# EAGLE library part XC7S50-FGGA484 (library fpga)
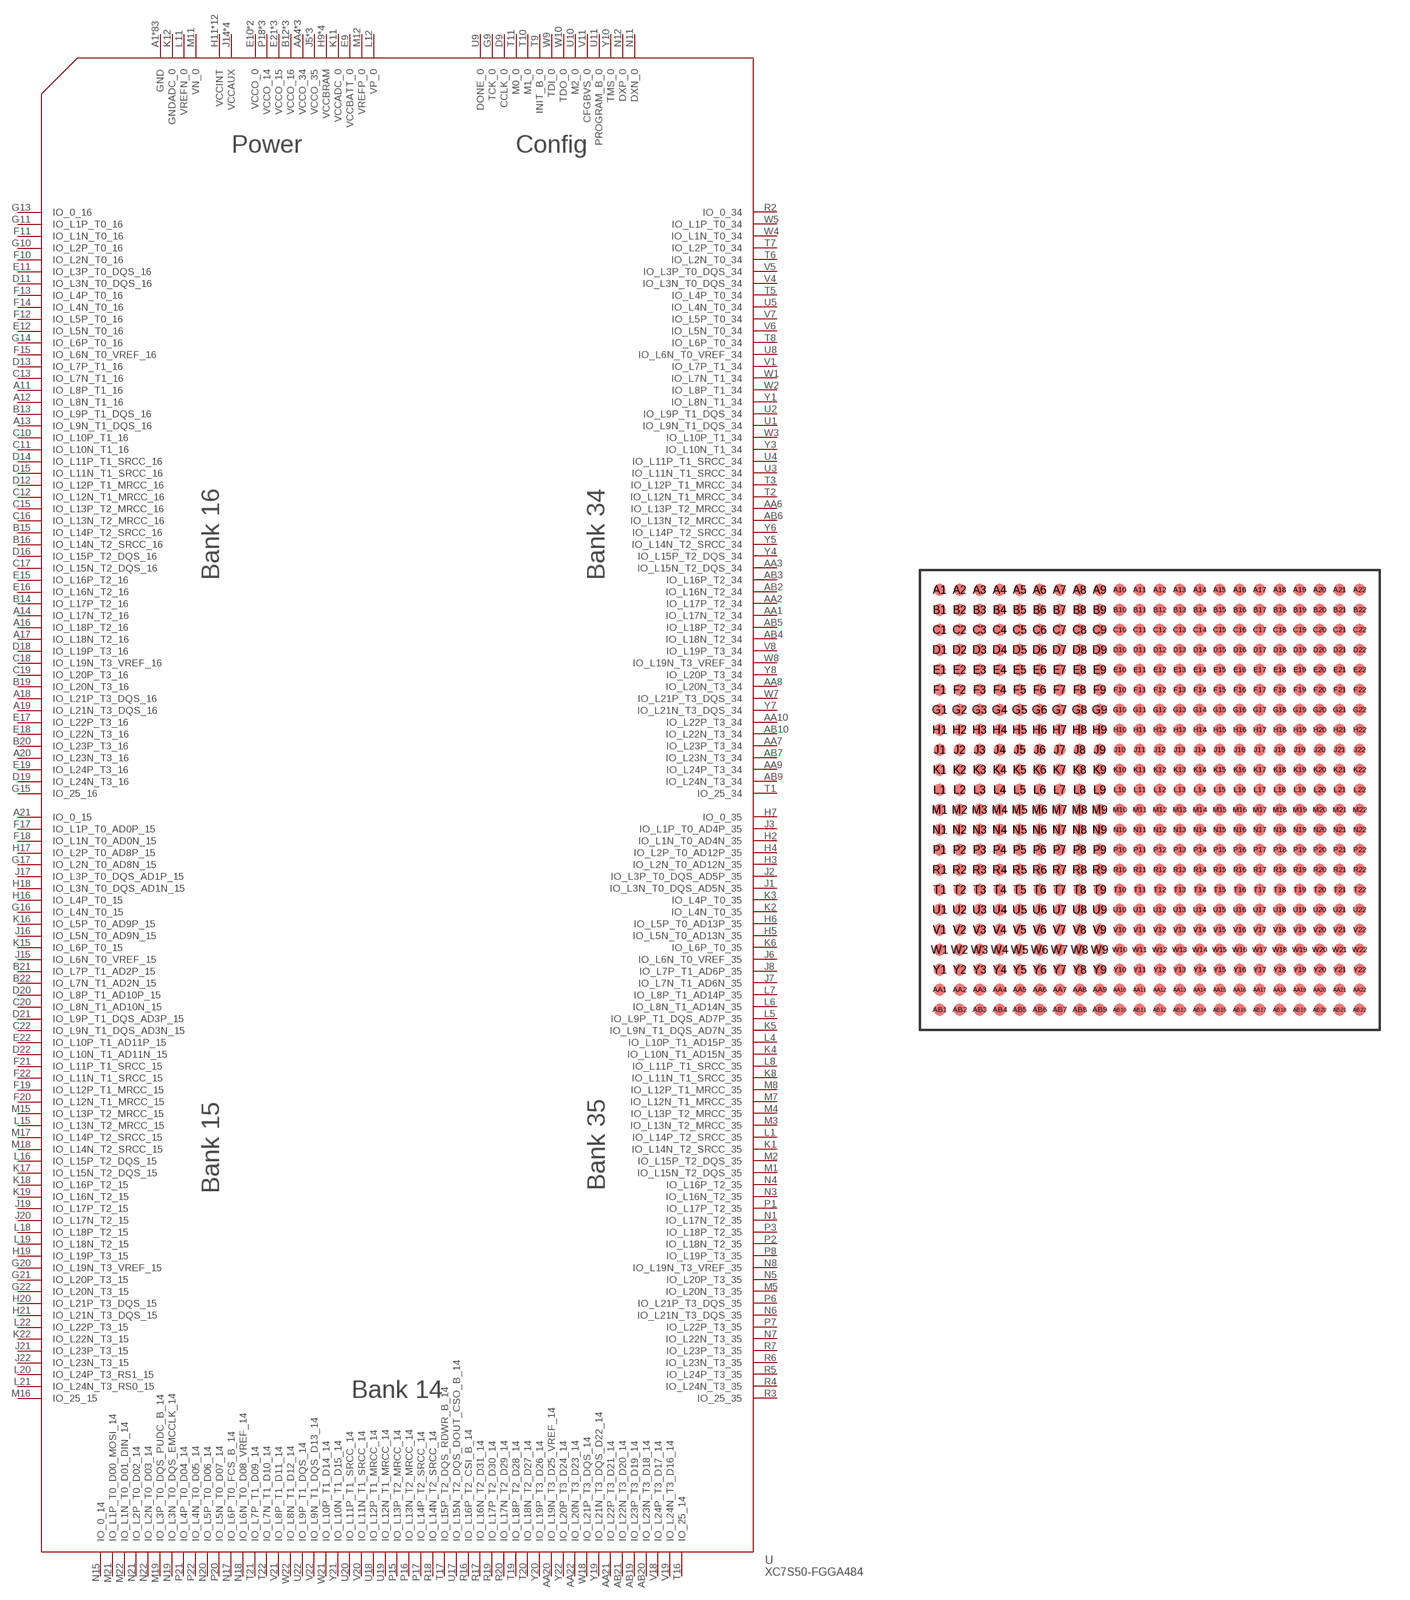
[diagram p1: symbol with the pads of FGGA484; footprint FGGA484]

Designator prefix -

## XC7S50-FGGA484  [FGGA484]
A1  GND
A8  GND
A11  IO_L8P_T1_16
A12  IO_L8N_T1_16
A13  IO_L9N_T1_DQS_16
A14  IO_L17N_T2_16
A15  GND
A16  IO_L18P_T2_16
A17  IO_L18N_T2_16
A18  IO_L21P_T3_DQS_16
A19  IO_L21N_T3_DQS_16
A20  IO_L23N_T3_16
A21  IO_0_15
A22  GND
AA1  IO_L17N_T2_34
AA2  IO_L17P_T2_34
AA3  IO_L15N_T2_DQS_34
AA4  VCCO_34
AA5  GND
AA6  IO_L13P_T2_MRCC_34
AA7  IO_L23P_T3_34
AA8  IO_L20N_T3_34
AA9  IO_L24P_T3_34
AA10  IO_L22P_T3_34
AA12  GND
AA19  GND
AA20  IO_L19N_T3_D25_VREF_14
AA21  IO_L22P_T3_D21_14
AA22  IO_L20N_T3_D23_14
AB1  GND
AB2  IO_L16N_T2_34
AB3  IO_L16P_T2_34
AB4  IO_L18N_T2_34
AB5  IO_L18P_T2_34
AB6  IO_L13N_T2_MRCC_34
AB7  IO_L23N_T3_34
AB8  GND
AB9  IO_L24N_T3_34
AB10  IO_L22N_T3_34
AB15  GND
AB19  IO_L23P_T3_D19_14
AB20  IO_L23N_T3_D18_14
AB21  IO_L22N_T3_D20_14
AB22  GND
B4  GND
B11  GND
B12  VCCO_16
B13  IO_L9P_T1_DQS_16
B14  IO_L17P_T2_16
B15  IO_L14P_T2_SRCC_16
B16  IO_L14N_T2_SRCC_16
B17  VCCO_16
B18  GND
B19  IO_L20N_T3_16
B20  IO_L23P_T3_16
B21  IO_L7P_T1_AD2P_15
B22  IO_L7N_T1_AD2N_15
C7  GND
C10  IO_L10P_T1_16
C11  IO_L10N_T1_16
C12  IO_L12N_T1_MRCC_16
C13  IO_L7N_T1_16
C14  GND
C15  IO_L13P_T2_MRCC_16
C16  IO_L13N_T2_MRCC_16
C17  IO_L15N_T2_DQS_16
C18  IO_L19N_T3_VREF_16
C19  IO_L20P_T3_16
C20  IO_L8N_T1_AD10N_15
C21  GND
C22  IO_L9N_T1_DQS_AD3N_15
D3  GND
D9  CCLK_0
D10  GND
D11  IO_L3N_T0_DQS_16
D12  IO_L12P_T1_MRCC_16
D13  IO_L7P_T1_16
D14  IO_L11P_T1_SRCC_16
D15  IO_L11N_T1_SRCC_16
D16  IO_L15P_T2_DQS_16
D17  GND
D18  IO_L19P_T3_16
D19  IO_L24N_T3_16
D20  IO_L8P_T1_AD10P_15
D21  IO_L9P_T1_DQS_AD3P_15
D22  IO_L10N_T1_AD11N_15
E6  GND
E9  VCCBATT_0
E10  VCCO_0
E11  IO_L3P_T0_DQS_16
E12  IO_L5N_T0_16
E13  GND
E14  VCCO_16
E15  IO_L16P_T2_16
E16  IO_L16N_T2_16
E17  IO_L22P_T3_16
E18  IO_L22N_T3_16
E19  IO_L24P_T3_16
E20  GND
E21  VCCO_15
E22  IO_L10P_T1_AD11P_15
F2  GND
F9  GND
F10  IO_L2N_T0_16
F11  IO_L1N_T0_16
F12  IO_L5P_T0_16
F13  IO_L4P_T0_16
F14  IO_L4N_T0_16
F15  IO_L6N_T0_VREF_16
F16  GND
F17  IO_L1P_T0_AD0P_15
F18  IO_L1N_T0_AD0N_15
F19  IO_L12P_T1_MRCC_15
F20  IO_L12N_T1_MRCC_15
F21  IO_L11P_T1_SRCC_15
F22  IO_L11N_T1_SRCC_15
G5  GND
G9  TCK_0
G10  IO_L2P_T0_16
G11  IO_L1P_T0_16
G12  GND
G13  IO_0_16
G14  IO_L6P_T0_16
G15  IO_25_16
G16  IO_L4N_T0_15
G17  IO_L2N_T0_AD8N_15
G18  VCCO_15
G19  GND
G20  IO_L19N_T3_VREF_15
G21  IO_L20P_T3_15
G22  IO_L20N_T3_15
H1  GND
H2  IO_L1N_T0_AD4N_35
H3  IO_L2N_T0_AD12N_35
H4  IO_L2P_T0_AD12P_35
H5  IO_L5N_T0_AD13N_35
H6  IO_L5P_T0_AD13P_35
H7  IO_0_35
H8  GND
H9  VCCBRAM
H10  GND
H11  VCCINT
H12  GND
H13  VCCINT
H14  GND
H15  GND
H16  IO_L4P_T0_15
H17  IO_L2P_T0_AD8P_15
H18  IO_L3N_T0_DQS_AD1N_15
H19  IO_L19P_T3_15
H20  IO_L21P_T3_DQS_15
H21  IO_L21N_T3_DQS_15
H22  GND
J1  IO_L3N_T0_DQS_AD5N_35
J2  IO_L3P_T0_DQS_AD5P_35
J3  IO_L1P_T0_AD4P_35
J4  GND
J5  VCCO_35
J6  IO_L6N_T0_VREF_35
J7  IO_L7N_T1_AD6N_35
J8  IO_L7P_T1_AD6P_35
J9  GND
J10  VCCINT
J11  GND
J12  VCCINT
J13  GND
J14  VCCAUX
J15  IO_L6N_T0_VREF_15
J16  IO_L5N_T0_AD9N_15
J17  IO_L3P_T0_DQS_AD1P_15
J18  GND
J19  IO_L17P_T2_15
J20  IO_L17N_T2_15
J21  IO_L23P_T3_15
J22  IO_L23N_T3_15
K1  IO_L14N_T2_SRCC_35
K2  IO_L4N_T0_35
K3  IO_L4P_T0_35
K4  IO_L10N_T1_AD15N_35
K5  IO_L9N_T1_DQS_AD7N_35
K6  IO_L6P_T0_35
K7  GND
K8  IO_L11N_T1_SRCC_35
K9  VCCBRAM
K10  GND
K11  VCCADC_0
K12  GNDADC_0
K13  VCCINT
K14  GND
K15  IO_L6P_T0_15
K16  IO_L5P_T0_AD9P_15
K17  IO_L15N_T2_DQS_15
K18  IO_L16P_T2_15
K19  IO_L16N_T2_15
K20  VCCO_15
K21  GND
K22  IO_L22N_T3_15
L1  IO_L14P_T2_SRCC_35
L2  VCCO_35
L3  GND
L4  IO_L10P_T1_AD15P_35
L5  IO_L9P_T1_DQS_AD7P_35
L6  IO_L8N_T1_AD14N_35
L7  IO_L8P_T1_AD14P_35
L8  IO_L11P_T1_SRCC_35
L9  GND
L10  VCCINT
L11  VREFN_0
L12  VP_0
L13  GND
L14  VCCAUX
L15  IO_L13N_T2_MRCC_15
L16  IO_L15P_T2_DQS_15
L17  GND
L18  IO_L18P_T2_15
L19  IO_L18N_T2_15
L20  IO_L24P_T3_RS1_15
L21  IO_L24N_T3_RS0_15
L22  IO_L22P_T3_15
M1  IO_L15N_T2_DQS_35
M2  IO_L15P_T2_DQS_35
M3  IO_L13N_T2_MRCC_35
M4  IO_L13P_T2_MRCC_35
M5  IO_L20N_T3_35
M6  GND
M7  IO_L12N_T1_MRCC_35
M8  IO_L12P_T1_MRCC_35
M9  VCCBRAM
M10  GND
M11  VN_0
M12  VREFP_0
M13  VCCINT
M14  GND
M15  IO_L13P_T2_MRCC_15
M16  IO_25_15
M17  IO_L14P_T2_SRCC_15
M18  IO_L14N_T2_SRCC_15
M19  IO_L3P_T0_DQS_PUDC_B_14
M20  GND
M21  IO_L1P_T0_D00_MOSI_14
M22  IO_L1N_T0_D01_DIN_14
N1  IO_L17N_T2_35
N2  GND
N3  IO_L16N_T2_35
N4  IO_L16P_T2_35
N5  IO_L20P_T3_35
N6  IO_L21N_T3_DQS_35
N7  IO_L22N_T3_35
N8  IO_L19N_T3_VREF_35
N9  GND
N10  VCCINT
N11  DXN_0
N12  DXP_0
N13  GND
N14  VCCAUX
N15  IO_0_14
N16  GND
N17  IO_L6P_T0_FCS_B_14
N18  IO_L6N_T0_D08_VREF_14
N19  IO_L3N_T0_DQS_EMCCLK_14
N20  IO_L5P_T0_D06_14
N21  IO_L2P_T0_D02_14
N22  IO_L2N_T0_D03_14
P1  IO_L17P_T2_35
P2  IO_L18N_T2_35
P3  IO_L18P_T2_35
P4  VCCO_35
P5  GND
P6  IO_L21P_T3_DQS_35
P7  IO_L22P_T3_35
P8  IO_L19P_T3_35
P9  VCCBRAM
P10  GND
P11  VCCINT
P12  GND
P13  VCCINT
P14  GND
P15  IO_L13P_T2_MRCC_14
P16  IO_L13N_T2_MRCC_14
P17  IO_L14P_T2_SRCC_14
P18  VCCO_14
P19  GND
P20  IO_L5N_T0_D07_14
P21  IO_L4P_T0_D04_14
P22  IO_L4N_T0_D05_14
R1  GND
R2  IO_0_34
R3  IO_25_35
R4  IO_L24N_T3_35
R5  IO_L24P_T3_35
R6  IO_L23N_T3_35
R7  IO_L23P_T3_35
R8  GND
R9  GND
R10  VCCINT
R11  GND
R12  VCCINT
R13  GND
R14  VCCAUX
R15  GND
R16  IO_L16P_T2_CSI_B_14
R17  IO_L16N_T2_D31_14
R18  IO_L14N_T2_SRCC_14
R19  IO_L17P_T2_D30_14
R20  IO_L17N_T2_D29_14
R21  VCCO_14
R22  GND
T1  IO_25_34
T2  IO_L12N_T1_MRCC_34
T3  IO_L12P_T1_MRCC_34
T4  GND
T5  IO_L4P_T0_34
T6  IO_L2N_T0_34
T7  IO_L2P_T0_34
T8  IO_L6P_T0_34
T9  INIT_B_0
T10  M1_0
T11  M0_0
T16  IO_25_14
T17  IO_L15P_T2_DQS_RDWR_B_14
T18  GND
T19  IO_L18P_T2_D28_14
T20  IO_L18N_T2_D27_14
T21  IO_L7P_T1_D09_14
T22  IO_L7N_T1_D10_14
U1  IO_L9N_T1_DQS_34
U2  IO_L9P_T1_DQS_34
U3  IO_L11N_T1_SRCC_34
U4  IO_L11P_T1_SRCC_34
U5  IO_L4N_T0_34
U6  VCCO_34
U7  GND
U8  IO_L6N_T0_VREF_34
U9  DONE_0
U10  M2_0
U11  PROGRAM_B_0
U14  GND
U17  IO_L15N_T2_DQS_DOUT_CSO_B_14
U18  IO_L12P_T1_MRCC_14
U19  IO_L12N_T1_MRCC_14
U20  IO_L11P_T1_SRCC_14
U21  GND
U22  IO_L9P_T1_DQS_14
V1  IO_L7P_T1_34
V2  VCCO_34
V3  GND
V4  IO_L3N_T0_DQS_34
V5  IO_L3P_T0_DQS_34
V6  IO_L5N_T0_34
V7  IO_L5P_T0_34
V8  IO_L19P_T3_34
V9  VCCO_0
V10  GND
V11  CFGBVS_0
V17  GND
V18  IO_L24P_T3_D17_14
V19  IO_L24N_T3_D16_14
V20  IO_L11N_T1_SRCC_14
V21  IO_L8P_T1_D11_14
V22  IO_L9N_T1_DQS_D13_14
W1  IO_L7N_T1_34
W2  IO_L8P_T1_34
W3  IO_L10P_T1_34
W4  IO_L1N_T0_34
W5  IO_L1P_T0_34
W6  GND
W7  IO_L21P_T3_DQS_34
W8  IO_L19N_T3_VREF_34
W9  TDI_0
W10  TDO_0
W13  GND
W18  IO_L21P_T3_DQS_14
W19  VCCO_14
W20  GND
W21  IO_L10P_T1_D14_14
W22  IO_L8N_T1_D12_14
Y1  IO_L8N_T1_34
Y2  GND
Y3  IO_L10N_T1_34
Y4  IO_L15P_T2_DQS_34
Y5  IO_L14N_T2_SRCC_34
Y6  IO_L14P_T2_SRCC_34
Y7  IO_L21N_T3_DQS_34
Y8  IO_L20P_T3_34
Y9  GND
Y10  TMS_0
Y16  GND
Y19  IO_L21N_T3_DQS_D22_14
Y20  IO_L19P_T3_D26_14
Y21  IO_L10N_T1_D15_14
Y22  IO_L20P_T3_D24_14

## Footprint FGGA484 (pad centres in mm)
smd 0.6 x 0.6: A1 -10,10; A2 -9,10; A3 -8,10; A4 -7,10; A5 -6,10; A6 -5,10; A7 -4,10; A8 -3,10; A9 -2,10; A10 -1,10; A11 0,10; A12 1,10; A13 2,10; A14 3,10; A15 4,10; A16 5,10; A17 6,10; A18 7,10; A19 8,10; A20 9,10; A21 10,10; A22 11,10; AA1 -10,-10; AA2 -9,-10; AA3 -8,-10; AA4 -7,-10; AA5 -6,-10; AA6 -5,-10; AA7 -4,-10; AA8 -3,-10; AA9 -2,-10; AA10 -1,-10; AA11 0,-10; AA12 1,-10; AA13 2,-10; AA14 3,-10; AA15 4,-10; AA16 5,-10; AA17 6,-10; AA18 7,-10; AA19 8,-10; AA20 9,-10; AA21 10,-10; AA22 11,-10; AB1 -10,-11; AB2 -9,-11; AB3 -8,-11; AB4 -7,-11; AB5 -6,-11; AB6 -5,-11; AB7 -4,-11; AB8 -3,-11; AB9 -2,-11; AB10 -1,-11; AB11 0,-11; AB12 1,-11; AB13 2,-11; AB14 3,-11; AB15 4,-11; AB16 5,-11; AB17 6,-11; AB18 7,-11; AB19 8,-11; AB20 9,-11; AB21 10,-11; AB22 11,-11; B1 -10,9; B2 -9,9; B3 -8,9; B4 -7,9; B5 -6,9; B6 -5,9; B7 -4,9; B8 -3,9; B9 -2,9; B10 -1,9; B11 0,9; B12 1,9; B13 2,9; B14 3,9; B15 4,9; B16 5,9; B17 6,9; B18 7,9; B19 8,9; B20 9,9; B21 10,9; B22 11,9; C1 -10,8; C2 -9,8; C3 -8,8; C4 -7,8; C5 -6,8; C6 -5,8; C7 -4,8; C8 -3,8; C9 -2,8; C10 -1,8; C11 0,8; C12 1,8; C13 2,8; C14 3,8; C15 4,8; C16 5,8; C17 6,8; C18 7,8; C19 8,8; C20 9,8; C21 10,8; C22 11,8; D1 -10,7; D2 -9,7; D3 -8,7; D4 -7,7; D5 -6,7; D6 -5,7; D7 -4,7; D8 -3,7; D9 -2,7; D10 -1,7; D11 0,7; D12 1,7; D13 2,7; D14 3,7; D15 4,7; D16 5,7; D17 6,7; D18 7,7; D19 8,7; D20 9,7; D21 10,7; D22 11,7; E1 -10,6; E2 -9,6; E3 -8,6; E4 -7,6; E5 -6,6; E6 -5,6; E7 -4,6; E8 -3,6; E9 -2,6; E10 -1,6; E11 0,6; E12 1,6; E13 2,6; E14 3,6; E15 4,6; E16 5,6; E17 6,6; E18 7,6; E19 8,6; E20 9,6; E21 10,6; E22 11,6; F1 -10,5; F2 -9,5; F3 -8,5; F4 -7,5; F5 -6,5; F6 -5,5; F7 -4,5; F8 -3,5; F9 -2,5; F10 -1,5; F11 0,5; F12 1,5; F13 2,5; F14 3,5; F15 4,5; F16 5,5; F17 6,5; F18 7,5; F19 8,5; F20 9,5; F21 10,5; F22 11,5; G1 -10,4; G2 -9,4; G3 -8,4; G4 -7,4; G5 -6,4; G6 -5,4; G7 -4,4; G8 -3,4; G9 -2,4; G10 -1,4; G11 0,4; G12 1,4; G13 2,4; G14 3,4; G15 4,4; G16 5,4; G17 6,4; G18 7,4; G19 8,4; G20 9,4; G21 10,4; G22 11,4; H1 -10,3; H2 -9,3; H3 -8,3; H4 -7,3; H5 -6,3; H6 -5,3; H7 -4,3; H8 -3,3; H9 -2,3; H10 -1,3; H11 0,3; H12 1,3; H13 2,3; H14 3,3; H15 4,3; H16 5,3; H17 6,3; H18 7,3; H19 8,3; H20 9,3; H21 10,3; H22 11,3; J1 -10,2; J2 -9,2; J3 -8,2; J4 -7,2; J5 -6,2; J6 -5,2; J7 -4,2; J8 -3,2; J9 -2,2; J10 -1,2; J11 0,2; J12 1,2; J13 2,2; J14 3,2; J15 4,2; J16 5,2; J17 6,2; J18 7,2; J19 8,2; J20 9,2; J21 10,2; J22 11,2; K1 -10,1; K2 -9,1; K3 -8,1; K4 -7,1; K5 -6,1; K6 -5,1; K7 -4,1; K8 -3,1; K9 -2,1; K10 -1,1; K11 0,1; K12 1,1; K13 2,1; K14 3,1; K15 4,1; K16 5,1; K17 6,1; K18 7,1; K19 8,1; K20 9,1; K21 10,1; K22 11,1; L1 -10,0; L2 -9,0; L3 -8,0; L4 -7,0; L5 -6,0; L6 -5,0; L7 -4,0; L8 -3,0; L9 -2,0; L10 -1,0; L11 0,0; L12 1,0; L13 2,0; L14 3,0; L15 4,0; L16 5,0; L17 6,0; L18 7,0; L19 8,0; L20 9,0; L21 10,0; L22 11,0; M1 -10,-1; M2 -9,-1; M3 -8,-1; M4 -7,-1; M5 -6,-1; M6 -5,-1; M7 -4,-1; M8 -3,-1; M9 -2,-1; M10 -1,-1; M11 0,-1; M12 1,-1; M13 2,-1; M14 3,-1; M15 4,-1; M16 5,-1; M17 6,-1; M18 7,-1; M19 8,-1; M20 9,-1; M21 10,-1; M22 11,-1; N1 -10,-2; N2 -9,-2; N3 -8,-2; N4 -7,-2; N5 -6,-2; N6 -5,-2; N7 -4,-2; N8 -3,-2; N9 -2,-2; N10 -1,-2; N11 0,-2; N12 1,-2; N13 2,-2; N14 3,-2; N15 4,-2; N16 5,-2; N17 6,-2; N18 7,-2; N19 8,-2; N20 9,-2; N21 10,-2; N22 11,-2; P1 -10,-3; P2 -9,-3; P3 -8,-3; P4 -7,-3; P5 -6,-3; P6 -5,-3; P7 -4,-3; P8 -3,-3; P9 -2,-3; P10 -1,-3; P11 0,-3; P12 1,-3; P13 2,-3; P14 3,-3; P15 4,-3; P16 5,-3; P17 6,-3; P18 7,-3; P19 8,-3; P20 9,-3; P21 10,-3; P22 11,-3; R1 -10,-4; R2 -9,-4; R3 -8,-4; R4 -7,-4; R5 -6,-4; R6 -5,-4; R7 -4,-4; R8 -3,-4; R9 -2,-4; R10 -1,-4; R11 0,-4; R12 1,-4; R13 2,-4; R14 3,-4; R15 4,-4; R16 5,-4; R17 6,-4; R18 7,-4; R19 8,-4; R20 9,-4; R21 10,-4; R22 11,-4; T1 -10,-5; T2 -9,-5; T3 -8,-5; T4 -7,-5; T5 -6,-5; T6 -5,-5; T7 -4,-5; T8 -3,-5; T9 -2,-5; T10 -1,-5; T11 0,-5; T12 1,-5; T13 2,-5; T14 3,-5; T15 4,-5; T16 5,-5; T17 6,-5; T18 7,-5; T19 8,-5; T20 9,-5; T21 10,-5; T22 11,-5; U1 -10,-6; U2 -9,-6; U3 -8,-6; U4 -7,-6; U5 -6,-6; U6 -5,-6; U7 -4,-6; U8 -3,-6; U9 -2,-6; U10 -1,-6; U11 0,-6; U12 1,-6; U13 2,-6; U14 3,-6; U15 4,-6; U16 5,-6; U17 6,-6; U18 7,-6; U19 8,-6; U20 9,-6; U21 10,-6; U22 11,-6; V1 -10,-7; V2 -9,-7; V3 -8,-7; V4 -7,-7; V5 -6,-7; V6 -5,-7; V7 -4,-7; V8 -3,-7; V9 -2,-7; V10 -1,-7; V11 0,-7; V12 1,-7; V13 2,-7; V14 3,-7; V15 4,-7; V16 5,-7; V17 6,-7; V18 7,-7; V19 8,-7; V20 9,-7; V21 10,-7; V22 11,-7; W1 -10,-8; W2 -9,-8; W3 -8,-8; W4 -7,-8; W5 -6,-8; W6 -5,-8; W7 -4,-8; W8 -3,-8; W9 -2,-8; W10 -1,-8; W11 0,-8; W12 1,-8; W13 2,-8; W14 3,-8; W15 4,-8; W16 5,-8; W17 6,-8; W18 7,-8; W19 8,-8; W20 9,-8; W21 10,-8; W22 11,-8; Y1 -10,-9; Y2 -9,-9; Y3 -8,-9; Y4 -7,-9; Y5 -6,-9; Y6 -5,-9; Y7 -4,-9; Y8 -3,-9; Y9 -2,-9; Y10 -1,-9; Y11 0,-9; Y12 1,-9; Y13 2,-9; Y14 3,-9; Y15 4,-9; Y16 5,-9; Y17 6,-9; Y18 7,-9; Y19 8,-9; Y20 9,-9; Y21 10,-9; Y22 11,-9